# Altium schematic symbol library DAC8830 EVM V4.0.SCHLIB: 18 symbols
Pins are listed as number, name and electrical type; pins without a type are passive.

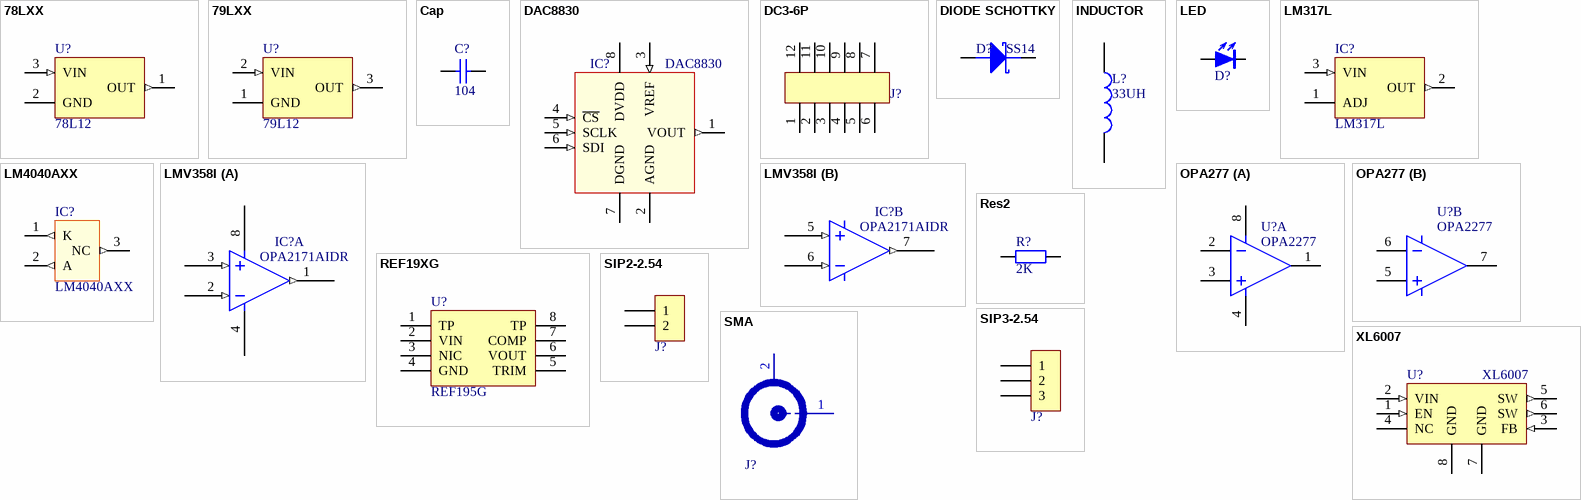
[diagram p0: symbols 78LXX to XL6007]

## 78LXX
designator U?, comment 78L12
LDO芯片
footprint 78LXX
footprint SOT-89 (SOT89, 3-Leads, Body 4.5x2.4mm (max),)
pins: 1 OUT (out), 2 GND (power), 3 VIN (in)

## 79LXX
designator U?, comment 79L12
负压芯片
footprint SOT-89 (SOT89, 3-Leads, Body 4.5x2.4mm (max),)
pins: 1 GND (power), 2 VIN (in), 3 OUT (out)

## Cap
designator C?, comment 104
贴片电容
footprint C0603
footprint c0805
footprint CAP-0603
pins: 1, 2

## DAC8830
designator IC?
TI公司16位DAC芯片
footprint STC-SOP8
pins: 1 VOUT (out), 2 AGND (power), 3 VREF (in), 4 ~{CS} (in), 5 SCLK (in), 6 SDI (in), 7 DGND (power), 8 DVDD (power)

## DC3-6P
designator J?  (value not drawn)
2.54mm双排排针
footprint PH2.54-6P
pins: 1, 2, 3, 4, 5, 6, 7, 8, 9, 10, 11, 12

## DIODE SCHOTTKY
designator D?, comment SS14
肖特基二极管
footprint SS14
pins: 1, 2

## INDUCTOR
designator L?, comment 33UH
贴片电感
footprint CDRH74 (7 × 7 × 4mm)
pins: 1, 2

## LED
designator D?  (value not drawn)
发光二极管
footprint D0805
footprint LED (Φ5mm,2.54mm)
pins: 1 A, 2 K

## LM317L
designator IC?
可调LDO芯片
footprint SOT-89
footprint to-92
pins: 1 ADJ, 2 OUT (out), 3 VIN (in)

## LM4040AXX
designator IC?
高精度基准电压芯片
footprint SOT-23
pins: 1 K (out), 2 A (out), 3 NC (out)

## LMV358I
designator IC?, comment OPA2171AIDR
运算放大器
footprint STC-SOP8
part A pins: 1 OUT1 (out), 2 IN1- (in), 3 IN1+ (in), 4 GND (power), 8 VCC (power)
part B pins: 5 IN2+ (in), 6 IN2- (in), 7 OUT2 (out)

## OPA277
designator U?, comment OPA2277
footprint STC-SOP8
part A pins: 1 OUTA, 2 INA-, 3 INA+, 4 V-, 8 V+
part B pins: 5 INB+, 6 INB-, 7 OUTB

## REF19XG
designator U?, comment REF195G
ADI高精度基准电压芯片
footprint STC-SOP8
pins: 1 TP, 2 VIN, 3 NIC, 4 GND, 5 TRIM, 6 VOUT, 7 COMP, 8 TP

## Res2
designator R?, comment 2K
贴片电阻
footprint 0603
footprint 0603R
footprint 0805
footprint RES-0603
pins: 1, 2

## SIP2-2.54
designator J?, comment KF128-XX  (value not drawn)
KF128 3.81mm接线端子
footprint KF128-3.81-2P
pins: 1, 2

## SIP3-2.54
designator J?, comment SIP3-2.54(不焊接)  (value not drawn)
2.54mm单排排针
footprint SIP3-2.54
pins: 1, 2, 3

## SMA
designator J?  (value not drawn)
SMA高频头
footprint SMA-KHD
pins: 1, 2

## XL6007
designator U?
上海芯龙DC-DC升压芯片
footprint STC-SOP8
pins: 1 EN (in), 2 VIN (in), 3 FB (in), 4 NC, 5 SW (out), 6 SW (out), 7 GND (power), 8 GND (power)